# EAGLE library part 74HC165D,653 (library misc)
8-bit parallel-in/serial out shift register
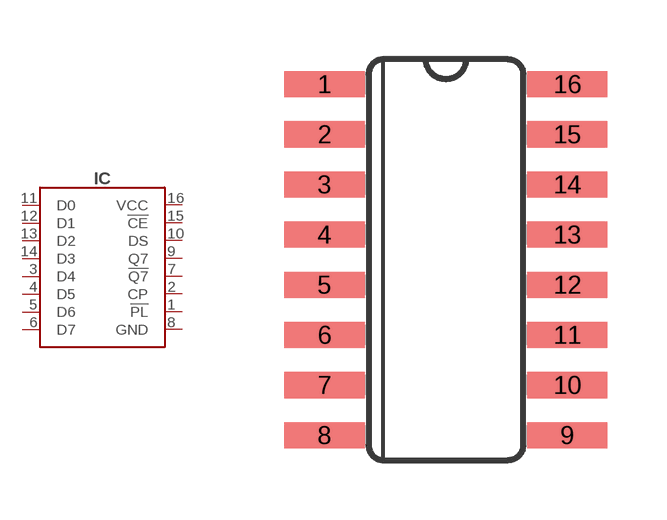
[diagram p68: symbol with the pads of SOIC16; footprint SOIC16]

Designator prefix IC

## 74HC165D,653 (LCSC#: C5613; MANF: Nexperia; MANF#: 74HC165D,653)  [SOIC16]
1  !PL!
2  CP
3  D4
4  D5
5  D6
6  D7
7  !Q7
8  GND
9  Q7
10  DS
11  D0
12  D1
13  D2
14  D3
15  !CE
16  VCC

## Footprint SOIC16 (pad centres in mm)
3D model <http://grabcad.com/library/106x-soic-packages-small-outline-integrated-circuit-1/details?folder_id=13776991>
smd 2.032 x 0.66: 1 -3.073,4.445; 2 -3.073,3.175; 3 -3.073,1.905; 4 -3.073,0.635; 5 -3.073,-0.635; 6 -3.073,-1.905; 7 -3.073,-3.175; 8 -3.073,-4.445; 9 3.073,-4.445; 10 3.073,-3.175; 11 3.073,-1.905; 12 3.073,-0.635; 13 3.073,0.635; 14 3.073,1.905; 15 3.073,3.175; 16 3.073,4.445